# Altium footprint library User_Library.PcbLib: 9 footprints
Each footprint in its own frame and in the unit in brackets; x right, y up, seen from the top. Pads: shape width x height; smd on the part's side, far side on the other; paste and mask are expansions set on the pad; w line width, h text height; cw(c..) or ccw(c..) is an arc to the next point about the centre after c.
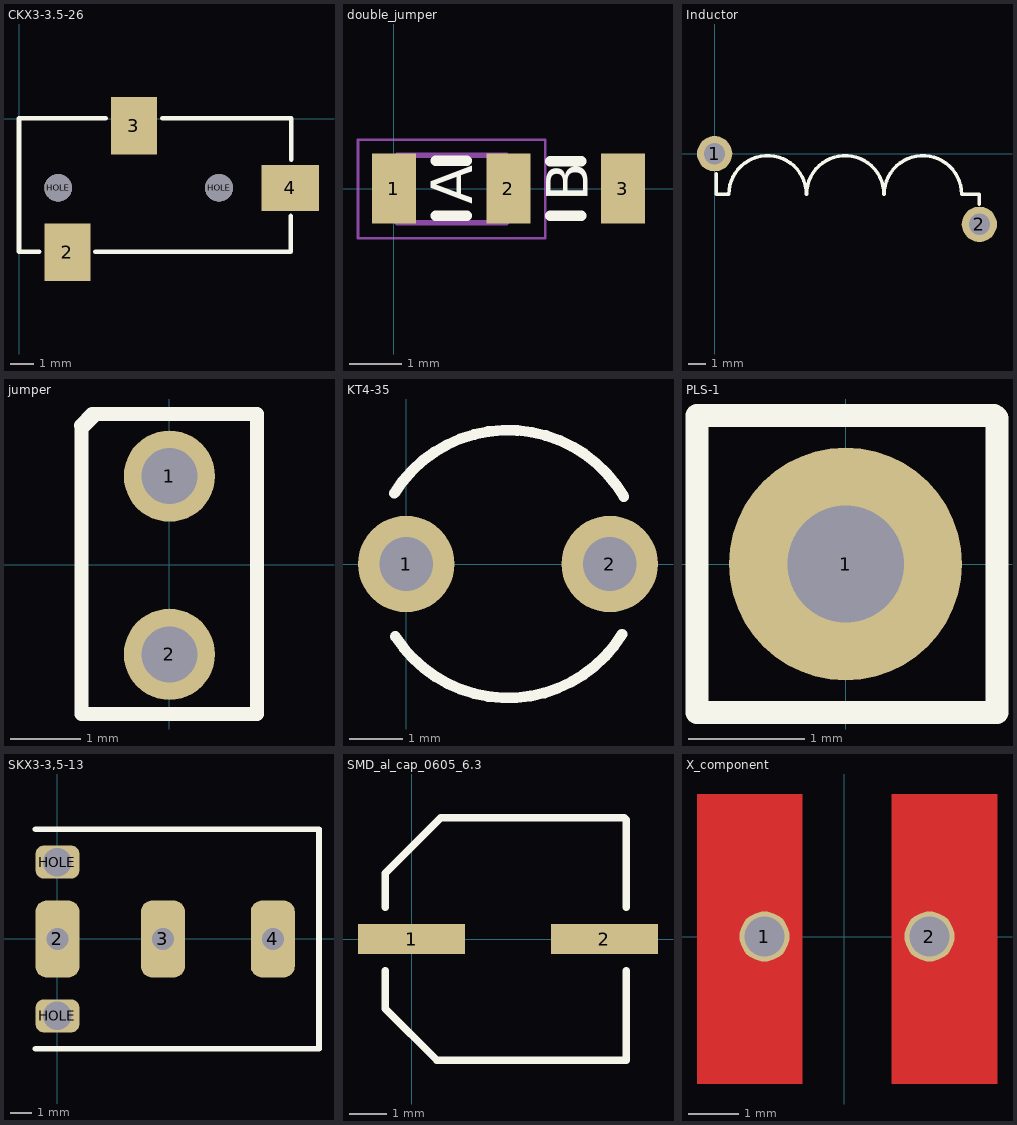
[diagram p0: the footprints below, top view; thin cyan lines are the x and y axes]

## CKX3-3.5-26 [mm]
pads (5):
  rect 2x2.5 smd: 2(2.1,-5.8) 3(5,-0.3)
  rect 2.5x2 smd: 4(11.8,-3)
  round 1.2 hole 1.2: HOLE(1.7,-3) HOLE(8.7,-3)
Top Overlay:
  lines w0.2: 0.875,-5.775 0,-5.775 0,0.025 3.775,0.025 ; 3.325,-5.775 11.825,-5.775 11.825,-4.225 ; 6.225,0.025 11.85,0.025 11.85,-1.775

## double_jumper [mm]
pads (3):
  rect 0.85x1.35 smd: 1(0,0) 2(2.2,0) 3(4.4,0)
Top Overlay:
  lines w0.2: 0.8,-0.525 1.4,-0.525 ; 0.8,0.532 1.396,0.532 ; 3,-0.525 3.6,-0.525 ; 3,0.525 3.6,0.525
  text "A" at 1.5,-0.3 h0.8
  text "B" at 3.725,-0.25 h0.8
Mechanical 13:
  lines w0.1: 0.058,-0.658 0.058,0.642 2.158,0.642 2.158,-0.658 0.058,-0.658
Mechanical 15:
  lines w0.05: -0.692,-0.958 -0.692,0.942 2.908,0.942 2.908,-0.958 -0.692,-0.958
3D body "User Library-R0805-2.step": height 0.55, standoff 0, extent -0.2,-0.625 2.2,0.625
3D body "User Library-R0805-2.step": height 0.55, standoff 0, extent 2.1,-0.625 4.5,0.625

## Inductor [mm]
pads (2):
  round 2 hole 1.2: 1(0,0) 2(15,-4)
Top Overlay:
  lines w0.2: 0.1,-1.125 0.1,-2.3 0.807,-2.3 cw(c3,-2.3) 5.193,-2.3 ; 5.207,-2.3 cw(c7.4,-2.3) 9.593,-2.3 ; 9.607,-2.3 cw(c11.8,-2.3) 13.993,-2.3 15,-2.3 15,-2.875

## jumper [mm] "PLS-2 вилка штыревая 2.54мм 1x2 прямая"
height 11.6
pads (2):
  round 1.3 hole 0.8: 1(0,1.265) 2(0,-1.275)
Top Overlay:
  lines w0.2: -1.263,1.987 -1.1,2.15 1.25,2.15 1.25,0.5 1.25,-2.125 -1.25,-2.125 -1.25,-0.5 -1.25,1.95 -1.05,2.15
3D body "User Library-Jumper.STEP": height 16.91, standoff 3.09, extent -1.2,-2.425 1.2,2.575
3D body "PLS-2.step": height 8.52, standoff -2.48, extent -1.3,-2.515 1.2,2.565

## KТ4-35 [mm]
pads (2):
  round 1.8 hole 1: 1(0,0) 2(3.8,0)
Top Overlay:
  lines w0.2: -0.221,1.323 cw(c1.9,0) 4.061,1.257 ; -0.203,-1.352 ccw(c1.9,0) 4.028,-1.312
3D body "КТ4-35.STEP": height 4.8, standoff -2.5, extent -0.7,-2.498 4.3,2.498

## PLS-1 [mm]
pads (1):
  round 2 hole 1: 1(0,0)
Top Overlay:
  lines w0.2: -1.275,-1.275 -1.275,1.275 1.275,1.275 1.3,1.25 1.3,-1.275 -1.275,-1.275
3D body "User Library-PLS-1.STEP": height 8.44, standoff -3, extent -1.27,-1.27 1.27,1.27

## SKX3-3,5-13 [mm]
pads (5):
  rrect50% 2x3.5 hole 1 square: 2(0,0) 3(4.8,0) 4(9.8,0)
  rrect50% 2x1.5 hole 1.3 square: HOLE(0,-3.5) HOLE(0,3.5)
Top Overlay:
  lines w0.254: -1,-5 11.9,-5 11.9,5 -1,5
3D body "pj-314a3.step": height 9.5, standoff -4.39, extent -6.62,-4 10.22,4

## SMD_al_cap_0605_6.3 [mm]
pads (2):
  rect 2.85x0.8 smd: 1(0,0) 2(5.125,0)
Top Overlay:
  lines w0.2: -0.7,-0.85 -0.7,-1.85 0.675,-3.225 5.7,-3.225 5.7,-0.85 ; -0.7,0.85 -0.7,1.75 0.775,3.225 5.65,3.225 5.7,3.175 5.7,0.85
3D body "User Library-capacitor size D.STEP": height 5.41, standoff -0.01, extent -0.975,-3.35 6.025,3.25

## X_component [mm]
pads (2):
  round 1 hole 0.8: 1(-1.6,0) 2(1.7,0)
Top Layer:
  region: -2.95,-2.95 -2.95,2.85 -0.85,2.85 -0.85,0.95 -0.85,-1.05 -0.85,-2.95
  region: 3.05,2.85 3.05,-2.95 0.95,-2.95 0.95,-1.05 0.95,0.95 0.95,2.85
3D body "sdr0604-221kl.stp": height 4.8, standoff 0, extent -2.9,-2.875 2.9,2.925